# Altium footprint library RES-0201.PcbLib: 1 footprints
Each footprint in its own frame and in the unit in brackets; x right, y up, seen from the top. Pads: shape width x height; smd on the part's side, far side on the other; paste and mask are expansions set on the pad; w line width, h text height; cw(c..) or ccw(c..) is an arc to the next point about the centre after c.
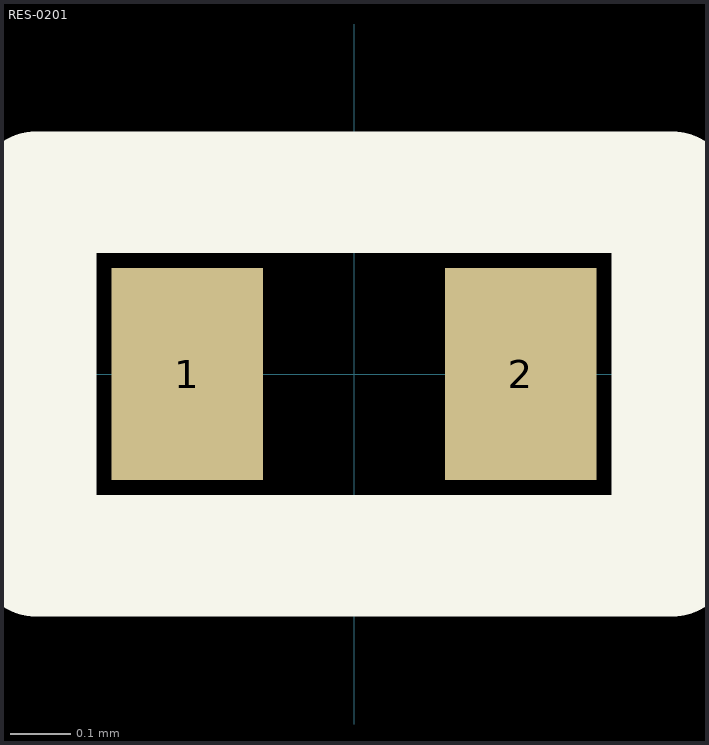
[diagram p0: the footprint, top view; thin cyan lines are the x and y axes]

## RES-0201 [mm]
height 0.9
pads (2):
  rect 0.25x0.35 smd: 1(-0.275,0) 2(0.275,0)
Top Overlay:
  lines w0.2: -0.525,-0.3 0.525,-0.3 0.525,0.3 -0.525,0.3 -0.525,-0.3
Top Assembly:
  lines w0.1: -0.525,-0.3 0.525,-0.3 0.525,0.3 -0.525,0.3 -0.525,-0.3
  text "'.Designator'" at -0.95,-0.425 h0.7
3D body "User Library-User Library-RES0201.step": height 0.15, standoff 0, extent -0.3,-0.15 0.3,0.15